# Altium schematic symbol library TM1616.SchLib: 1 symbol
Pins are listed as number, name and electrical type; pins without a type are passive.

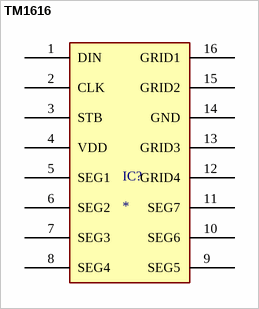
[diagram p0: symbol TM1616]

## TM1616
designator IC?
4-digit 7seg display controller; MF: TM; MP: TM1620; SnapEDA_Link: https://www.snapeda.com/parts/TM1620/TMMH/view-part/?ref=snap; Package: None; Value: *; Check_prices: https://www.snapeda.com/parts/TM1620/TMMH/view-part/?ref=eda
footprint SO_16 (SOP, SOIC, 3.9mm width, 1.27mm pitch,)
pins: 1 DIN, 2 CLK, 3 STB, 4 VDD, 5 SEG1, 6 SEG2, 7 SEG3, 8 SEG4, 9 SEG5, 10 SEG6, 11 SEG7, 12 GRID4, 13 GRID3, 14 GND, 15 GRID2, 16 GRID1